# EAGLE library part STM32F2XXZXT (library stm32f207zg)
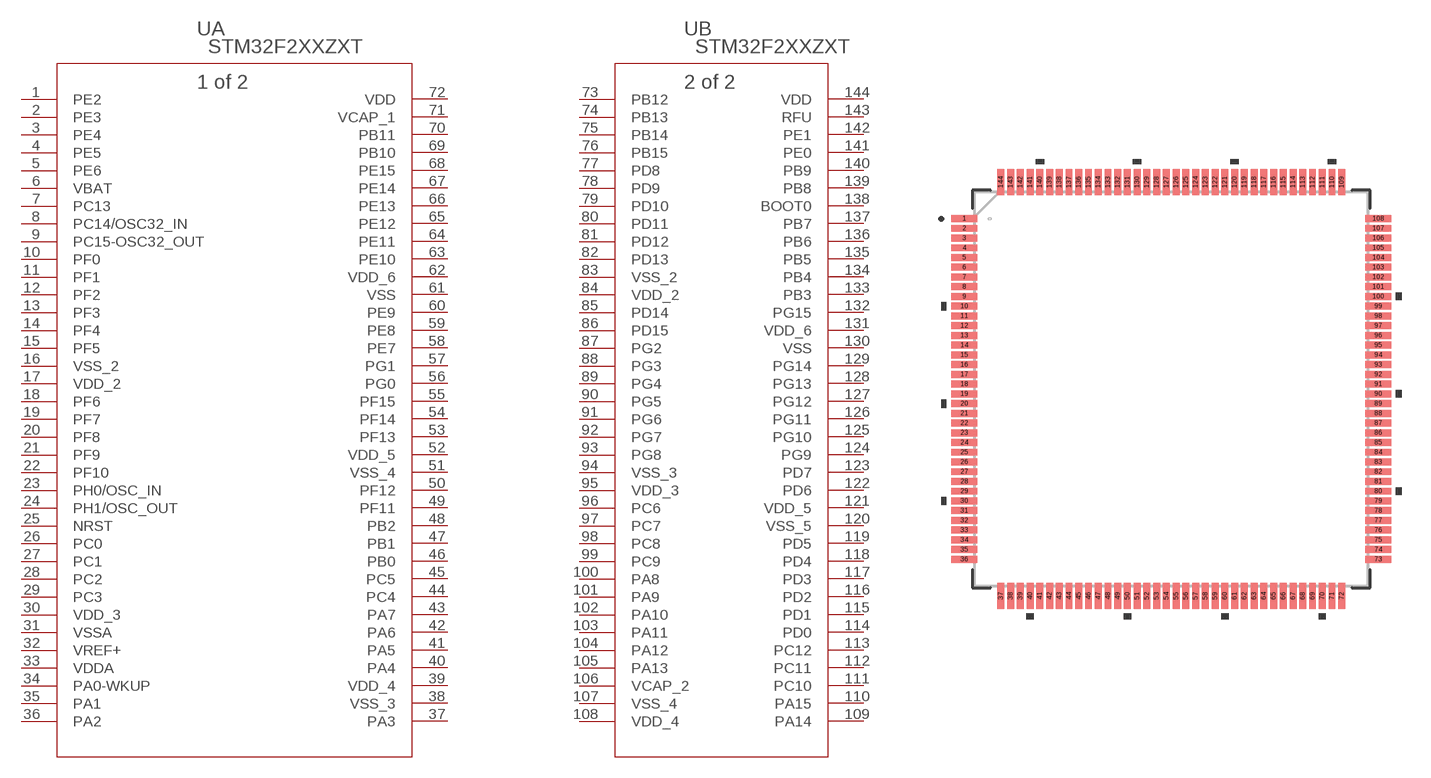
[diagram p0: symbol with the pads of LQFP144-20X20MM; footprint LQFP144-20X20MM]

Designator prefix U; gates A=STM32F2XXZXT_A B=STM32F2XXZXT_B

## STM32F2XXZXT (MANUFACTURER_PART_NUMBER: stm32f2xxzxt; VENDOR: STMicroelectronics)  [LQFP144-20X20MM]
1  A:PE2
2  A:PE3
3  A:PE4
4  A:PE5
5  A:PE6
6  A:VBAT  pwr
7  A:PC13
8  A:PC14/OSC32_IN
9  A:PC15-OSC32_OUT
10  A:PF0
11  A:PF1
12  A:PF2
13  A:PF3
14  A:PF4
15  A:PF5
16  A:VSS_2  pwr
17  A:VDD_2  pwr
18  A:PF6
19  A:PF7
20  A:PF8
21  A:PF9
22  A:PF10
23  A:PH0/OSC_IN
24  A:PH1/OSC_OUT
25  A:NRST
26  A:PC0
27  A:PC1
28  A:PC2
29  A:PC3
30  A:VDD_3  pwr
31  A:VSSA  pwr
32  A:VREF+  pwr
33  A:VDDA  pwr
34  A:PA0-WKUP
35  A:PA1
36  A:PA2
37  A:PA3
38  A:VSS_3  pwr
39  A:VDD_4  pwr
40  A:PA4
41  A:PA5
42  A:PA6
43  A:PA7
44  A:PC4
45  A:PC5
46  A:PB0
47  A:PB1
48  A:PB2
49  A:PF11
50  A:PF12
51  A:VSS_4  pwr
52  A:VDD_5  pwr
53  A:PF13
54  A:PF14
55  A:PF15
56  A:PG0
57  A:PG1
58  A:PE7
59  A:PE8
60  A:PE9
61  A:VSS  pwr
62  A:VDD_6  pwr
63  A:PE10
64  A:PE11
65  A:PE12
66  A:PE13
67  A:PE14
68  A:PE15
69  A:PB10
70  A:PB11
71  A:VCAP_1  pwr
72  A:VDD  pwr
73  B:PB12
74  B:PB13
75  B:PB14
76  B:PB15
77  B:PD8
78  B:PD9
79  B:PD10
80  B:PD11
81  B:PD12
82  B:PD13
83  B:VSS_2  pwr
84  B:VDD_2  pwr
85  B:PD14
86  B:PD15
87  B:PG2
88  B:PG3
89  B:PG4
90  B:PG5
91  B:PG6
92  B:PG7
93  B:PG8
94  B:VSS_3  pwr
95  B:VDD_3  pwr
96  B:PC6
97  B:PC7
98  B:PC8
99  B:PC9
100  B:PA8
101  B:PA9
102  B:PA10
103  B:PA11
104  B:PA12
105  B:PA13
106  B:VCAP_2  pwr
107  B:VSS_4  pwr
108  B:VDD_4  pwr
109  B:PA14
110  B:PA15
111  B:PC10
112  B:PC11
113  B:PC12
114  B:PD0
115  B:PD1
116  B:PD2
117  B:PD3
118  B:PD4
119  B:PD5
120  B:VSS_5  pwr
121  B:VDD_5  pwr
122  B:PD6
123  B:PD7
124  B:PG9
125  B:PG10
126  B:PG11
127  B:PG12
128  B:PG13
129  B:PG14
130  B:VSS  pwr
131  B:VDD_6  pwr
132  B:PG15
133  B:PB3
134  B:PB4
135  B:PB5
136  B:PB6
137  B:PB7
138  B:BOOT0  in
139  B:PB8
140  B:PB9
141  B:PE0
142  B:PE1
143  B:RFU  pas
144  B:VDD  pwr

## Footprint LQFP144-20X20MM (pad centres in mm)
smd 1.346 x 0.356: 1 -10.625,8.75; 2 -10.625,8.25; 3 -10.625,7.75; 4 -10.625,7.25; 5 -10.625,6.75; 6 -10.625,6.25; 7 -10.625,5.75; 8 -10.625,5.25; 9 -10.625,4.75; 10 -10.625,4.25; 11 -10.625,3.75; 12 -10.625,3.25; 13 -10.625,2.75; 14 -10.625,2.25; 15 -10.625,1.75; 16 -10.625,1.25; 17 -10.625,0.75; 18 -10.625,0.25; 19 -10.625,-0.25; 20 -10.625,-0.75; 21 -10.625,-1.25; 22 -10.625,-1.75; 23 -10.625,-2.25; 24 -10.625,-2.75; 25 -10.625,-3.25; 26 -10.625,-3.75; 27 -10.625,-4.25; 28 -10.625,-4.75; 29 -10.625,-5.25; 30 -10.625,-5.75; 31 -10.625,-6.25; 32 -10.625,-6.75; 33 -10.625,-7.25; 34 -10.625,-7.75; 35 -10.625,-8.25; 36 -10.625,-8.75; 73 10.625,-8.75; 74 10.625,-8.25; 75 10.625,-7.75; 76 10.625,-7.25; 77 10.625,-6.75; 78 10.625,-6.25; 79 10.625,-5.75; 80 10.625,-5.25; 81 10.625,-4.75; 82 10.625,-4.25; 83 10.625,-3.75; 84 10.625,-3.25; 85 10.625,-2.75; 86 10.625,-2.25; 87 10.625,-1.75; 88 10.625,-1.25; 89 10.625,-0.75; 90 10.625,-0.25; 91 10.625,0.25; 92 10.625,0.75; 93 10.625,1.25; 94 10.625,1.75; 95 10.625,2.25; 96 10.625,2.75; 97 10.625,3.25; 98 10.625,3.75; 99 10.625,4.25; 100 10.625,4.75; 101 10.625,5.25; 102 10.625,5.75; 103 10.625,6.25; 104 10.625,6.75; 105 10.625,7.25; 106 10.625,7.75; 107 10.625,8.25; 108 10.625,8.75
smd 0.356 x 1.346: 37 -8.75,-10.625; 38 -8.25,-10.625; 39 -7.75,-10.625; 40 -7.25,-10.625; 41 -6.75,-10.625; 42 -6.25,-10.625; 43 -5.75,-10.625; 44 -5.25,-10.625; 45 -4.75,-10.625; 46 -4.25,-10.625; 47 -3.75,-10.625; 48 -3.25,-10.625; 49 -2.75,-10.625; 50 -2.25,-10.625; 51 -1.75,-10.625; 52 -1.25,-10.625; 53 -0.75,-10.625; 54 -0.25,-10.625; 55 0.25,-10.625; 56 0.75,-10.625; 57 1.25,-10.625; 58 1.75,-10.625; 59 2.25,-10.625; 60 2.75,-10.625; 61 3.25,-10.625; 62 3.75,-10.625; 63 4.25,-10.625; 64 4.75,-10.625; 65 5.25,-10.625; 66 5.75,-10.625; 67 6.25,-10.625; 68 6.75,-10.625; 69 7.25,-10.625; 70 7.75,-10.625; 71 8.25,-10.625; 72 8.75,-10.625; 109 8.75,10.625; 110 8.25,10.625; 111 7.75,10.625; 112 7.25,10.625; 113 6.75,10.625; 114 6.25,10.625; 115 5.75,10.625; 116 5.25,10.625; 117 4.75,10.625; 118 4.25,10.625; 119 3.75,10.625; 120 3.25,10.625; 121 2.75,10.625; 122 2.25,10.625; 123 1.75,10.625; 124 1.25,10.625; 125 0.75,10.625; 126 0.25,10.625; 127 -0.25,10.625; 128 -0.75,10.625; 129 -1.25,10.625; 130 -1.75,10.625; 131 -2.25,10.625; 132 -2.75,10.625; 133 -3.25,10.625; 134 -3.75,10.625; 135 -4.25,10.625; 136 -4.75,10.625; 137 -5.25,10.625; 138 -5.75,10.625; 139 -6.25,10.625; 140 -6.75,10.625; 141 -7.25,10.625; 142 -7.75,10.625; 143 -8.25,10.625; 144 -8.75,10.625